# Altium footprint library MODULE_ESP32_DEVKIT_V1.PcbLib: 1 footprints
Each footprint in its own frame and in the unit in brackets; x right, y up, seen from the top. Pads: shape width x height; smd on the part's side, far side on the other; paste and mask are expansions set on the pad; w line width, h text height; cw(c..) or ccw(c..) is an arc to the next point about the centre after c.
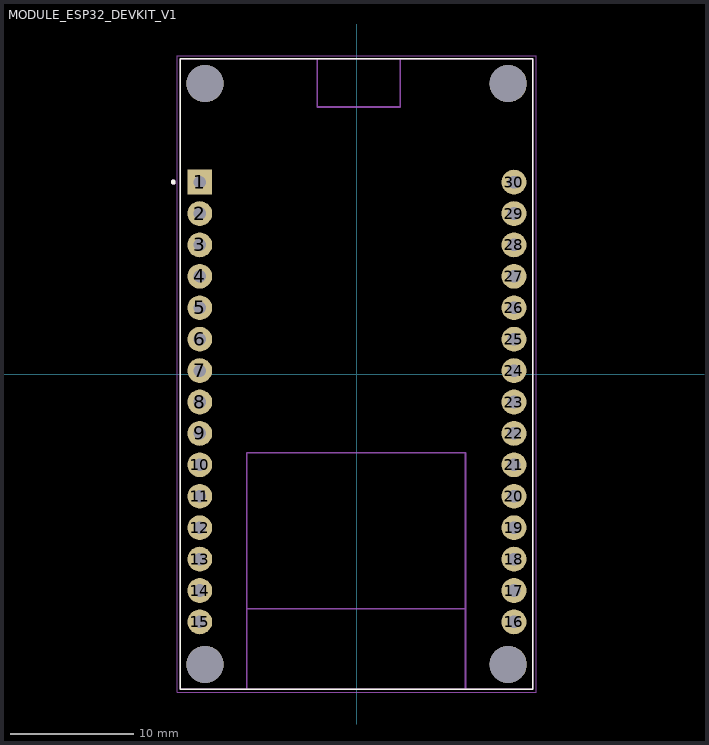
[diagram p0: the footprint, top view; thin cyan lines are the x and y axes]

## MODULE_ESP32_DEVKIT_V1 [mm]
height 6.8
pads (34):
  rect 2x2 / inner round 2 / far side rect 2x2 hole 1.02: 1(-12.7,15.515)
  round 2 hole 1.02: 2(-12.7,12.975) 3(-12.7,10.435) 4(-12.7,7.895) 5(-12.7,5.355) 6(-12.7,2.815) 7(-12.7,0.275) 8(-12.7,-2.265) 9(-12.7,-4.805) 10(-12.7,-7.345) 11(-12.7,-9.885) 12(-12.7,-12.425) 13(-12.7,-14.965) 14(-12.7,-17.505) 15(-12.7,-20.045) 16(12.7,-20.045) 17(12.7,-17.505) 18(12.7,-14.965) 19(12.7,-12.425) 20(12.7,-9.885) 21(12.7,-7.345) 22(12.7,-4.805) 23(12.7,-2.265) 24(12.7,0.275) 25(12.7,2.815) 26(12.7,5.355) 27(12.7,7.895) 28(12.7,10.435) 29(12.7,12.975) 30(12.7,15.515)
  round 3 hole 3 unplated: ""(-12.28,-23.475) ""(-12.28,23.475) ""(12.23,-23.475) ""(12.23,23.475)
Top Overlay:
  circle w0.2: c-14.85,15.515 r0.1
  lines w0.127: -14.28,-25.475 14.23,-25.475 ; -14.28,-25.475 -14.28,25.475 ; -14.28,-25.475 -14.28,25.475 ; -14.28,-25.475 -8.91,-25.475 8.78,-25.475 14.23,-25.475 ; -14.28,25.475 14.23,25.475 ; -14.28,25.475 -3.211,25.475 3.5,25.475 14.23,25.475 ; 14.23,-25.475 14.23,25.475 ; 14.23,-25.475 14.23,25.475
Mechanical 13:
  circle w0.2: c-14.85,15.515 r0.1
  lines w0.127: -8.91,-25.475 -14.28,-25.475 -14.28,25.475 -3.211,25.475 ; -8.91,-25.475 8.78,-25.475 ; -8.91,-25.475 -8.91,-18.985 ; -8.91,-18.985 -8.91,-6.355 8.78,-6.355 8.78,-18.985 ; -8.91,-18.985 8.78,-18.985 ; -3.211,25.475 3.5,25.475 ; -3.211,25.475 -3.211,21.585 3.5,21.585 3.5,25.475 ; 3.5,25.475 14.23,25.475 14.23,-25.475 8.78,-25.475 ; 8.78,-25.475 8.78,-18.985
Mechanical 15:
  lines w0.05: -14.53,-25.725 -14.53,25.725 14.48,25.725 14.48,-25.725 -14.53,-25.725
3D body "ESP32-DEVKIT-V1--3DModel-STEP-269445.STEP": height 7.05, standoff -6, extent -14.1,-26.281 14.1,26.169